# EAGLE library part 1X06 (library magzor-connectors)
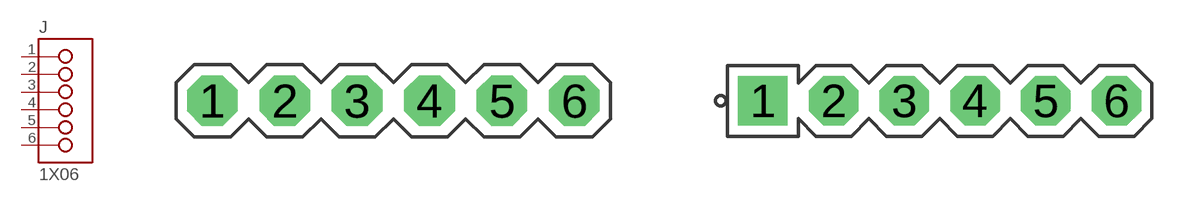
[diagram p0: symbol with the pads of P0.1IN-1X06; footprints P0.1IN-1X06, P0.1IN-1X06-1SQ]

Designator prefix J

## 1X06-0.1IN  [P0.1IN-1X06]
1  1
2  2
3  3
4  4
5  5
6  6

## 1X06-0.1IN-1SQ  [P0.1IN-1X06-1SQ]
Pads as for P0.1IN-1X06

## 1X06-JST-PH  [JST-PH-1X06]
Pads as for P0.1IN-1X06

## 1X06-JST-PH-SE  [JST-PH-1X06-SE]
Pads as for P0.1IN-1X06

## 1X06-JST-XH-SE  [JST-XH-1X06-SE]
Pads as for P0.1IN-1X06

## 1X06-JST-XH+PH-SE  [JST-XH+PH-1X06-SE]
PH.1  1
PH.2  2
PH.3  3
PH.4  4
PH.5  5
PH.6  6
XH.1  1
XH.2  2
XH.3  3
XH.4  4
XH.5  5
XH.6  6

## 1X06-JST-EH-SE  [JST-EH-1X06-SE]
Pads as for P0.1IN-1X06

## 1X06-JST-EH+XH+PH-SE  [JST-EH+XH+PH-1X06-SE]
EH+XH.1  1
EH+XH.2  2
EH+XH.3  3
EH+XH.4  4
EH+XH.5  5
EH+XH.6  6
PH.1  1
PH.2  2
PH.3  3
PH.4  4
PH.5  5
PH.6  6

## Footprint P0.1IN-1X06 (pad centres in mm)
drill 0.965 pad 1.778 octagon: 1 -6.35,0; 2 -3.81,0; 3 -1.27,0; 4 1.27,0; 5 3.81,0; 6 6.35,0

## Footprint P0.1IN-1X06-1SQ (pad centres in mm)
drill 0.965 pad 1.778 square: 1 -6.35,0
drill 0.965 pad 1.778 octagon: 2 -3.81,0; 3 -1.27,0; 4 1.27,0; 5 3.81,0; 6 6.35,0

## Footprint JST-PH-1X06 (pad centres in mm)
drill 0.85 square: 1 5,0
drill 0.85 octagon: 2 3,0; 3 1,0; 4 -1,0; 5 -3,0; 6 -5,0

## Footprint JST-PH-1X06-SE (pad centres in mm)
drill 0.85 square: 1 5,0
drill 0.85 octagon: 2 3,0; 3 1,0; 4 -1,0; 5 -3,0; 6 -5,0

## Footprint JST-XH-1X06-SE (pad centres in mm)
drill 1.05 square: 1 6.25,0
drill 1.05 octagon: 2 3.75,0; 3 1.25,0; 4 -1.25,0; 5 -3.75,0; 6 -6.25,0

## Footprint JST-XH+PH-1X06-SE (pad centres in mm)
drill 0.85 square: PH.1 5,3
drill 0.85 octagon: PH.2 3,3; PH.3 1,3; PH.4 -1,3; PH.5 -3,3; PH.6 -5,3
drill 1.05 square: XH.1 6.25,0
drill 1.05 octagon: XH.2 3.75,0; XH.3 1.25,0; XH.4 -1.25,0; XH.5 -3.75,0; XH.6 -6.25,0

## Footprint JST-EH-1X06-SE (pad centres in mm)
drill 1 square: 1 -6.25,0
drill 1 octagon: 2 -3.75,0; 3 -1.25,0; 4 1.25,0; 5 3.75,0; 6 6.25,0

## Footprint JST-EH+XH+PH-1X06-SE (pad centres in mm)
drill 1.05 square: EH+XH.1 -6.25,0
drill 1.05 octagon: EH+XH.2 -3.75,0; EH+XH.3 -1.25,0; EH+XH.4 1.25,0; EH+XH.5 3.75,0; EH+XH.6 6.25,0
drill 0.85 square: PH.1 -5,3
drill 0.85 octagon: PH.2 -3,3; PH.3 -1,3; PH.4 1,3; PH.5 3,3; PH.6 5,3